# Altium footprint library PTS645SM43SMTR92LFS.PcbLib: 1 footprints
Each footprint in its own frame and in the unit in brackets; x right, y up, seen from the top. Pads: shape width x height; smd on the part's side, far side on the other; paste and mask are expansions set on the pad; w line width, h text height; cw(c..) or ccw(c..) is an arc to the next point about the centre after c.
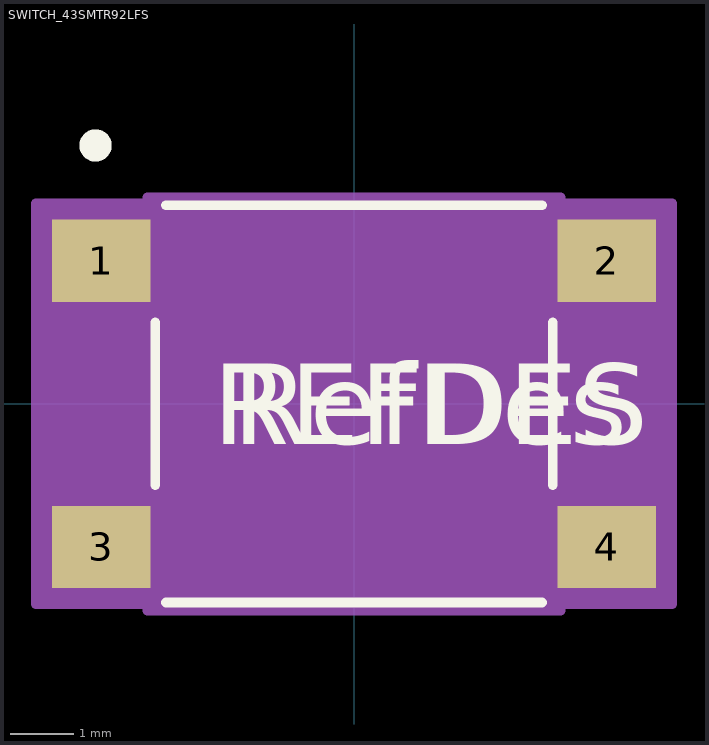
[diagram p0: the footprint, top view; thin cyan lines are the x and y axes]

## SWITCH_43SMTR92LFS [mm]
pads (4):
  rect 1.549x1.295 smd paste+0 mask+0: 1(-3.975,2.25) 2(3.975,2.25) 3(-3.975,-2.25) 4(3.975,-2.25)
Top Overlay:
  circle w0.254: c-4.064,4.064 r0.127
  lines w0.152: -3.124,-1.278 -3.124,1.278 ; -2.957,-3.124 2.957,-3.124 ; -2.957,3.124 2.957,3.124 ; 3.124,-1.278 3.124,1.278
  text "REFDES" at -2.222,-0.635 h1.27
  text "RefDes" at -1.905,-0.635 h1.27
Bottom Overlay:
  circle w0.254: c-4.064,4.064 r0.127
Mechanical 13:
  circle w0.254: c-2.54,2.286 r0.127
  circle w0: c0,0 r1.753
  lines w0.025: -3.975,-2.25 -3.975,-2.25 ; -2.997,-2.997 2.997,-2.997 2.997,2.997 -2.997,2.997 -2.997,-2.997 ; -2.997,-2.25 -2.997,-2.25 ; -2.997,2.25 -2.997,2.25 ; 2.997,-2.25 2.997,-2.25 ; 2.997,2.25 2.997,2.25
  text "RefDes2" at -2.222,-0.635 h1.27
Mechanical 15:
  region: -3.251,-3.152 -5.004,-3.152 -5.004,3.152 -3.251,3.152 -3.251,3.251 3.251,3.251 3.251,3.152 5.004,3.152 5.004,-3.152 3.251,-3.152 3.251,-3.251 -3.251,-3.251
  lines w0.152: -5.004,-3.152 -5.004,3.152 -3.251,3.152 -3.251,3.251 3.251,3.251 3.251,3.152 5.004,3.152 5.004,-3.152 3.251,-3.152 3.251,-3.251 -3.251,-3.251 -3.251,-3.152 -5.004,-3.152